# Altium schematic symbol library LD2980ABM33TR.SchLib: 1 symbol
Pins are listed as number, name and electrical type; pins without a type are passive.

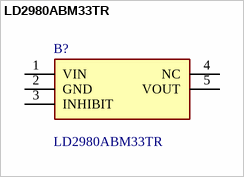
[diagram p0: symbol LD2980ABM33TR]

## LD2980ABM33TR
designator B?
LDO Regulator 3.3V 0.05A SOT23-5 LD2980ABM33TR, Low Dropout Voltage Regulator, 0.05A, 3.3 V +/-0.5%, -3  16 Vin, 5-Pin SOT-23; Manufacturer_Name: STMicroelectronics; Geometry.Height: 1.45mm; TME Electronic Components Part Number: *; TME Electronic Components Price/Stock: *; Manufacturer_Part_Number: LD2980ABM33TR; Datasheet Link: https://www.st.com/resource/en/datasheet/ld2980.pdf
footprint SOT95P280X145-5N
pins: 1 VIN, 2 GND (power), 3 INHIBIT, 4 NC, 5 VOUT